# Altium footprint library NCS1P5-232&plus_.PcbLib: 3 footprints
Each footprint in its own frame and in the unit in brackets; x right, y up, seen from the top. Pads: shape width x height; smd on the part's side, far side on the other; paste and mask are expansions set on the pad; w line width, h text height; cw(c..) or ccw(c..) is an arc to the next point about the centre after c.
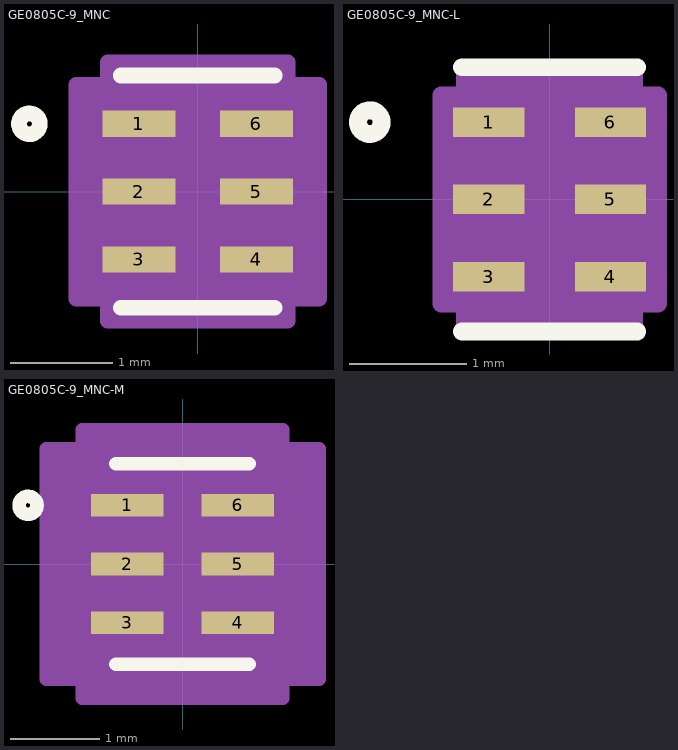
[diagram p0: the footprints below, top view; thin cyan lines are the x and y axes]

## GE0805C-9_MNC [mil]
pads (6):
  rect 28x10 smd paste+0 mask+0: 1(-22.5,26) 2(-22.5,0) 3(-22.5,-26) 4(22.5,-26) 5(22.5,0) 6(22.5,26)
Top Overlay:
  circle w6: c-64.5,26 r4
  lines w6: -29.5,-44.5 29.5,-44.5 ; -29.5,44.5 29.5,44.5
Mechanical 13:
  circle w0: c-8.5,26 r3
  lines w0: -12,39.5 ccw(c0,39.5) 12,39.5
  lines w1: -24.5,-39.5 24.5,-39.5 24.5,39.5 -24.5,39.5 -24.5,-39.5
Mechanical 15:
  region: -34.5,-41 -46.5,-41 -46.5,41 -34.5,41 -34.5,49.5 34.5,49.5 34.5,41 46.5,41 46.5,-41 34.5,-41 34.5,-49.5 -34.5,-49.5
  lines w6: -46.5,-41 -46.5,41 -34.5,41 -34.5,49.5 34.5,49.5 34.5,41 46.5,41 46.5,-41 34.5,-41 34.5,-49.5 -34.5,-49.5 -34.5,-41 -46.5,-41
3D body "GE0805C-9_MNC.step": height 46.1, standoff 0, extent -24.49,-39.49 24.49,39.49

## GE0805C-9_MNC-L [mil]
pads (6):
  rect 24x10 smd paste+0 mask+0: 1(-20.5,26) 2(-20.5,0) 3(-20.5,-26) 4(20.5,-26) 5(20.5,0) 6(20.5,26)
Top Overlay:
  circle w6: c-60.5,26 r4
  lines w6: -29.5,-44.5 29.5,-44.5 ; -29.5,44.5 29.5,44.5
Mechanical 13:
  circle w0: c-8.5,26 r3
  lines w0: -12,39.5 ccw(c0,39.5) 12,39.5
  lines w1: -24.5,-39.5 24.5,-39.5 24.5,39.5 -24.5,39.5 -24.5,-39.5
Mechanical 15:
  region: -28.5,-35 -36.5,-35 -36.5,35 -28.5,35 -28.5,43.5 28.5,43.5 28.5,35 36.5,35 36.5,-35 28.5,-35 28.5,-43.5 -28.5,-43.5
  lines w6: -36.5,-35 -36.5,35 -28.5,35 -28.5,43.5 28.5,43.5 28.5,35 36.5,35 36.5,-35 28.5,-35 28.5,-43.5 -28.5,-43.5 -28.5,-35 -36.5,-35
3D body "GE0805C-9_MNC.step": height 46.1, standoff 0, extent -24.49,-39.49 24.49,39.49

## GE0805C-9_MNC-M [mil]
pads (6):
  rect 32x10 smd paste+0 mask+0: 1(-24.5,26) 2(-24.5,0) 3(-24.5,-26) 4(24.5,-26) 5(24.5,0) 6(24.5,26)
Top Overlay:
  circle w6: c-68.5,26 r4
  lines w6: -29.5,-44.5 29.5,-44.5 ; -29.5,44.5 29.5,44.5
Mechanical 13:
  circle w0: c-8.5,26 r3
  lines w0: -12,39.5 ccw(c0,39.5) 12,39.5
  lines w1: -24.5,-39.5 24.5,-39.5 24.5,39.5 -24.5,39.5 -24.5,-39.5
Mechanical 15:
  region: -44.5,-51 -60.5,-51 -60.5,51 -44.5,51 -44.5,59.5 44.5,59.5 44.5,51 60.5,51 60.5,-51 44.5,-51 44.5,-59.5 -44.5,-59.5
  lines w6: -60.5,-51 -60.5,51 -44.5,51 -44.5,59.5 44.5,59.5 44.5,51 60.5,51 60.5,-51 44.5,-51 44.5,-59.5 -44.5,-59.5 -44.5,-51 -60.5,-51
3D body "GE0805C-9_MNC.step": height 46.1, standoff 0, extent -24.49,-39.49 24.49,39.49